# Altium integrated library HDSP-523E.IntLib: 1 symbol
Pins are listed as number, name and electrical type; pins without a type are passive.

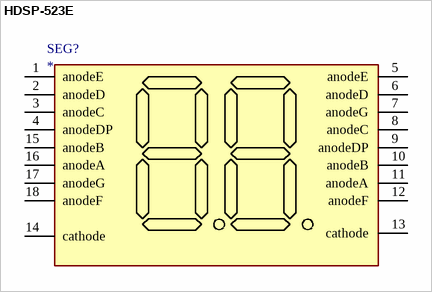
[diagram p0: symbol HDSP-523E]

## HDSP-523E
designator SEG?
datasheet: https://www.farnell.com/datasheets/1930786.pdf; ComponentLink1Description: Farnell; ComponentLink1URL: https://es.farnell.com/broadcom-limited/hdsp-523e/led-display-dual-0-56-he-red/dp/1003315?ost=hdsp-523e
footprint HDSP-523E
pins: 1 anodeE, 2 anodeD, 3 anodeC, 4 anodeDP, 5 anodeE, 6 anodeD, 7 anodeG, 8 anodeC, 9 anodeDP, 10 anodeB, 11 anodeA, 12 anodeF, 13 cathode, 14 cathode, 15 anodeB, 16 anodeA, 17 anodeG, 18 anodeF